# Altium schematic symbol library sajat.SchLib: 26 symbols
Pins are listed as number, name and electrical type; pins without a type are passive.

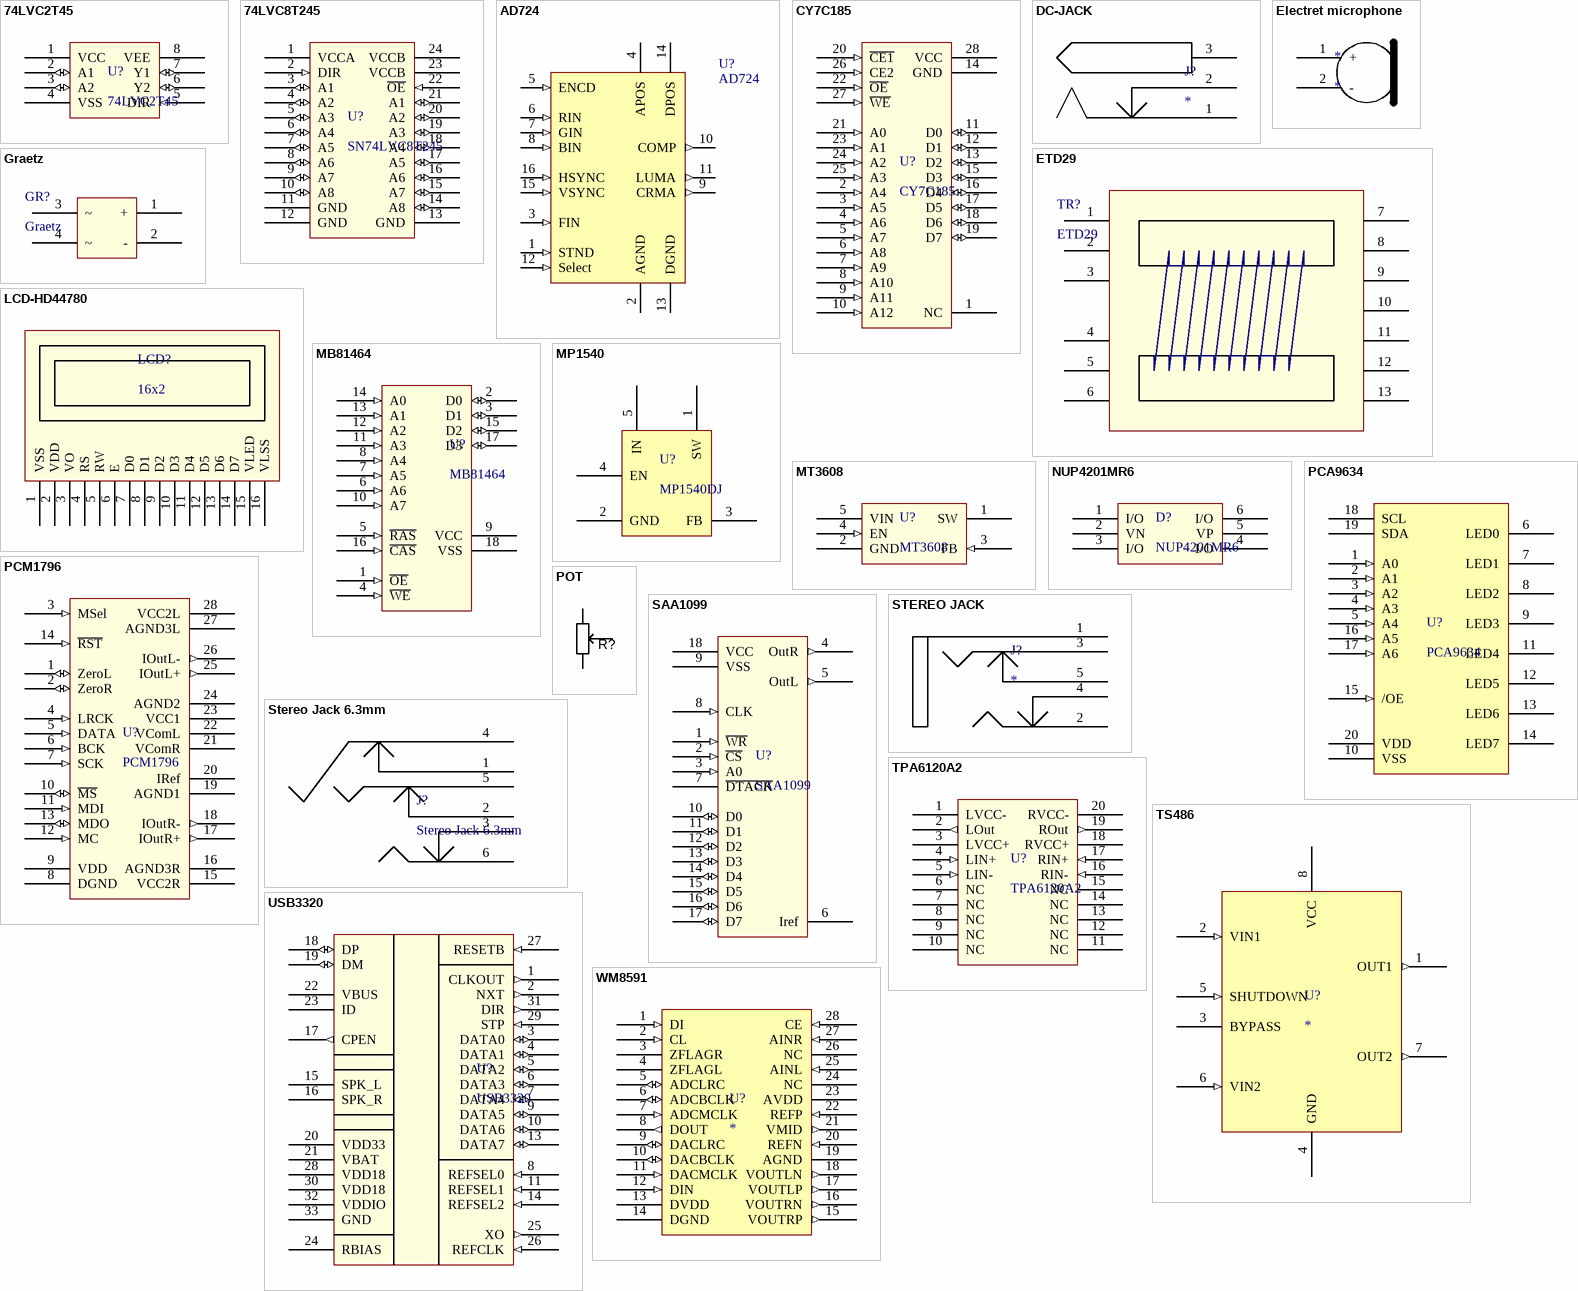
[diagram p0: symbols 74LVC2T45 to WM8591]

## 74LVC2T45
designator U?
2-line logic level shifter
footprint VSSOP8 (SOT765-1)
pins: 1 VCC (power), 2 A1 (io), 3 A2 (io), 4 VSS (power), 5 DIR (in), 6 Y2 (io), 7 Y1 (io), 8 VEE (power)

## 74LVC8T245
designator U?, comment SN74LVC8T245
Logic level shifter
footprint 24X (Shrink Small Outline; 24 Leads; Body Width 4.4 mm; Pitch 0.65 mm)
pins: 1 VCCA (power), 2 DIR (in), 3 A1 (io), 4 A2 (io), 5 A3 (io), 6 A4 (io), 7 A5 (io), 8 A6 (io), 9 A7 (io), 10 A8 (io), 11 GND (power), 12 GND (power), 13 GND (power), 14 A8 (io), 15 A7 (io), 16 A6 (io), 17 A5 (io), 18 A4 (io), 19 A3 (io), 20 A2 (io), 21 A1 (io), 22 ~{OE} (in), 23 VCCB (power), 24 VCCB (power)

## AD724
designator U?
Low Cost RGB to NTSC/PAL Encoder; Published: 6-Jun-2005; LatestRevisionDate: 13-Apr-2006; LatestRevisionNote: IPC-7351 Footprint Added.; DatasheetVersion: Rev. 0, Oct-1997; PackageVersion: 2005; PackageReference: RW-16; Publisher: Altium Limited; PackageDescription: 16-Pin Wide Body Small Outline Integrated Circuit 1.27 mm Pitch; Code_JEDEC: MS-013-AA; Code_IPC: SOIC127P1030-16; ComponentLink1Description: Manufacturer Link; ComponentLink1URL: Device Home PageŽhttp://www.analog.com/en/prod/0%2C2877%2CAD725%2C00.html; ComponentLink2Description: Datasheet; ComponentLink2URL: http://www.analog.com/UploadedFiles/Data_Sheets/774020909AD725_0.pdf
footprint RW-16_N (SOIC, 16-Leads, Body 10.3x7.5mm, Pitch 1.27mm, IPC Medium Density)
footprint RW-16_L (SOIC, 16-Leads, Body 10.3x7.5mm, Pitch 1.27mm, IPC High Density)
footprint RW-16_M (SOIC, 16-Leads, Body 10.3x7.5mm, Pitch 1.27mm, IPC Low Density)
3D model RW-16 (16-Pin Wide Body Small Outline Integrated Circuit 1.27 mm Pitch)
pins: 1 STND (in) "Encoding Standard Pin (NTSC - PAL)", 2 AGND (power) "Analog Ground Connection", 3 FIN (in) "Clock Input", 4 APOS (power) "Analog Positive Supply", 5 ENCD (in) "Enable encoding", 6 RIN (in) "Red Component Video Input", 7 GIN (in) "Green Component Video Input", 8 BIN (in) "Blue Component Video Input", 9 CRMA (out) "Chrominance Output", 10 COMP (out) "Composite Video Output", 11 LUMA (out) "Luminance plus CSYNC Output", 12 Select (in) "Select clock frequency", 13 DGND (power) "Digital Ground Connection", 14 DPOS (power) "Digital Positive Supply", 15 VSYNC (in) "Vertical Sync Signal", 16 HSYNC (in) "Horizontal Sync Signal"

## CY7C185
designator U?
8k × 8bit SRAM
footprint SOIC300-28_L (28-Pin Small Outline Integrated Circuit 1.27 mm Pitch, IPC High Density)
footprint SOIC300-28_M (28-Pin Small Outline Integrated Circuit 1.27 mm Pitch, IPC Low Density)
footprint SOIC300-28_N (28-Pin Small Outline Integrated Circuit 1.27 mm Pitch, IPC Medium Density)
pins: 1 NC, 2 A4 (in), 3 A5 (in), 4 A6 (in), 5 A7 (in), 6 A8 (in), 7 A9 (in), 8 A10 (in), 9 A11 (in), 10 A12 (in), 11 D0 (io), 12 D1 (io), 13 D2 (io), 14 GND (power), 15 D3 (io), 16 D4 (io), 17 D5 (io), 18 D6 (io), 19 D7 (io), 20 ~{CE1} (in), 21 A0 (in), 22 ~{OE} (in), 23 A1 (in), 24 A2 (in), 25 A3 (in), 26 CE2 (in), 27 ~{WE} (in), 28 VCC (power)

## DC-JACK
designator J?
Tápcsatlakozó
footprint JACK (Jack tápcsatlakozó)
pins: 1, 2, 3

## Electret microphone
designator *
Elektret mikrofon kapszula
footprint MIC 10 mm (10 mm átmérőjű elektret mikrofon betét)
pins: 1 +, 2 -

## ETD29
designator TR?
ETD29 magos transzformátor
footprint ETD29
pins: 1, 2, 3, 4, 5, 6, 7, 8, 9, 10, 11, 12, 13

## Graetz
designator GR?
Graetz híd
footprint DIP-GRAETZ (Graetz híd)
pins: 1 +, 2 -, 3 ~, 4 ~

## LCD-HD44780
designator LCD?, comment 16x2
HD44780 alapú LCD modul
footprint LCD_16x2 (16x2 karakteres LCD)
pins: 1 VSS, 2 VDD, 3 VO, 4 RS, 5 RW, 6 E, 7 D0, 8 D1, 9 D2, 10 D3, 11 D4, 12 D5, 13 D6, 14 D7, 15 VLED, 16 VLSS

## MB81464
designator U?
1024K x 4 bit DRAM
footprint PLCC/R-18L (PLCC; 18 Leads; Body 7.4 x 12.4 mm; Pitch 1.27 mm)
pins: 1 ~{OE} (in), 2 D0 (io), 3 D1 (io), 4 ~{WE} (in), 5 ~{RAS} (in), 6 A6 (in), 7 A5 (in), 8 A4 (in), 9 VCC (power), 10 A7 (in), 11 A3 (in), 12 A2 (in), 13 A1 (in), 14 A0 (in), 15 D2 (io), 16 ~{CAS} (in), 17 D3 (io), 18 VSS (power)

## MP1540
designator U?, comment MP1540DJ
Step-up converter
footprint S5 (SOT-23/SC-74A; 5 Leads; Body 3.1 x 3 mm, inc. leads (LxW max))
pins: 1 SW, 2 GND, 3 FB, 4 EN, 5 IN

## MT3608
designator U?
Boost converter
footprint SOT23-6
pins: 1 SW (oc), 2 GND (power), 3 FB (in), 4 EN (in), 5 VIN (power)

## NUP4201MR6
designator D?
TVS Array
footprint 318G-02 (SOT-457/SC-74; 6 Leads; Body 3.1 x 3 mm, inc. leads (LxW max))
pins: 1 I/O, 2 VN, 3 I/O, 4 I/O, 5 VP, 6 I/O

## PCA9634
designator U?
NXP I2C buszos LED meghajtó
footprint TSSOP65P640X120-20N (TSSOP, 20-Leads, Body 6.6x4.5mm (max), Pitch 0.65mm, IPC Medium Density)
pins: 1 A0 (in), 2 A1 (in), 3 A2 (in), 4 A3 (in), 5 A4 (in), 6 LED0, 7 LED1, 8 LED2, 9 LED3, 10 VSS (power), 11 LED4, 12 LED5, 13 LED6, 14 LED7, 15 /OE (in), 16 A5 (in), 17 A6 (in), 18 SCL (oc), 19 SDA (oc), 20 VDD (power)

## PCM1796
designator U?
PCM1796 high fidelity audio DAC
footprint DBT28 (Shrink Small Outline; 28 Leads; Body Width 4.4 mm; Pitch 0.5 mm)
pins: 1 ZeroL (io), 2 ZeroR (io), 3 MSel (in), 4 LRCK (in), 5 DATA (in), 6 BCK (in), 7 SCK (in), 8 DGND (power), 9 VDD (power), 10 ~{MS} (io), 11 MDI (in), 12 MC (in), 13 MDO (io), 14 ~{RST} (in), 15 VCC2R (power), 16 AGND3R (power), 17 IOutR+ (out), 18 IOutR- (out), 19 AGND1 (power), 20 IRef, 21 VComR, 22 VComL, 23 VCC1 (power), 24 AGND2 (power), 25 IOutL+ (out), 26 IOutL- (out), 27 AGND3L (power), 28 VCC2L (power)

## POT
designator R?, comment 25 turns  (value not drawn)
Trimmer THD; Tolerance: ±10%; Ratings: 1/2W; ±100ppm/°C; SCDType: spec; Material: Cermet; Package / Case: 10.9mm L x 5.0mm W x 10.0mm H
footprint PT-105 (Furatszerelt, fektetett trimmer potenciométer)
pins: 1, 2, 3

## SAA1099
designator U?
Philips SAA1099 SSG
footprint PDIP300-18 (DIP, Plastic; 18 Leads; Row Spacing 7.62 mm; Pitch 2.54 mm)
pins: 1 ~{WR} (in), 2 ~{CS} (in), 3 A0 (in), 4 OutR (out), 5 OutL (out), 6 Iref, 7 ~{DTACK} (oc), 8 CLK (in), 9 VSS (power), 10 D0 (io), 11 D1 (io), 12 D2 (io), 13 D3 (io), 14 D4 (io), 15 D5 (io), 16 D6 (io), 17 D7 (io), 18 VCC (power)

## STEREO JACK
designator J?
Sztereo audio csatlakozó 3,5 mm
footprint STEREO JACK 3.5 mm
pins: 1, 2, 3, 4, 5

## Stereo Jack 6.3mm
designator J?
Amphenol ACJS-MHDR
footprint ACJS-MHDR (Amphenol 6.3mm audio jack)
pins: 1, 2, 3, 4, 5, 6

## TPA6120A2
designator U?
High fidelity audio amplifier
footprint DW020_M (20-Pin Plastic Small Outline Integrated Circuit 1.27 mm Pitch, IPC Low Density)
pins: 1 LVCC- (power), 2 LOut (out), 3 LVCC+ (power), 4 LIN+ (in), 5 LIN- (in), 6 NC, 7 NC, 8 NC, 9 NC, 10 NC, 11 NC, 12 NC, 13 NC, 14 NC, 15 NC, 16 RIN- (in), 17 RIN+ (in), 18 RVCC+ (power), 19 ROut (out), 20 RVCC- (power)

## TS486
designator U?
0.1 W audio amplifier
footprint SOIC150-8_N (8-Pin Plastic Narrow Body Small Outline Integrated Circuit 1.27 mm Pitch, IPC Medium Density)
pins: 1 OUT1 (out), 2 VIN1 (in), 3 BYPASS, 4 GND (power), 5 SHUTDOWN (in), 6 VIN2 (in), 7 OUT2 (out), 8 VCC (power)

## USB3320
designator U?
SMSC USB ULPI transciever
footprint QFN50P500X500X80-33N (QFN, 32-Leads with exposed die pad, Body 5.1x5.1mm (max), Pitch 0.50mm, IPC Medium Density)
pins: 1 CLKOUT (out), 2 NXT (out), 3 DATA0 (io), 4 DATA1 (io), 5 DATA2 (io), 6 DATA3 (io), 7 DATA4 (io), 8 REFSEL0 (in), 9 DATA5 (io), 10 DATA6 (io), 11 REFSEL1 (in), 13 DATA7 (io), 14 REFSEL2 (in), 15 SPK_L, 16 SPK_R, 17 CPEN (out), 18 DP (io), 19 DM (io), 20 VDD33 (power), 21 VBAT (power), 22 VBUS, 23 ID, 24 RBIAS, 25 XO (out), 26 REFCLK (in), 27 RESETB (in), 28 VDD18 (power), 29 STP (in), 30 VDD18 (power), 31 DIR (out), 32 VDDIO (power), 33 GND (power)

## WM8591
designator U?
WM8591 AUDIO CODEC
footprint SSOP-28 (SSOP, Plastic; 28 Leads; Body Width 5.2 mm; Pitch 0.65 mm)
pins: 1 DI (in), 2 CL (in), 3 ZFLAGR (oc), 4 ZFLAGL (oc), 5 ADCLRC (io), 6 ADCBCLK (io), 7 ADCMCLK (in), 8 DOUT (out), 9 DACLRC (io), 10 DACBCLK (io), 11 DACMCLK (in), 12 DIN (in), 13 DVDD (power), 14 DGND (power), 15 VOUTRP (out), 16 VOUTRN (out), 17 VOUTLP (out), 18 VOUTLN (out), 19 AGND (power), 20 REFN (in), 21 VMID (out), 22 REFP (in), 23 AVDD (power), 24 NC, 25 AINL (in), 26 NC, 27 AINR (in), 28 CE (in)

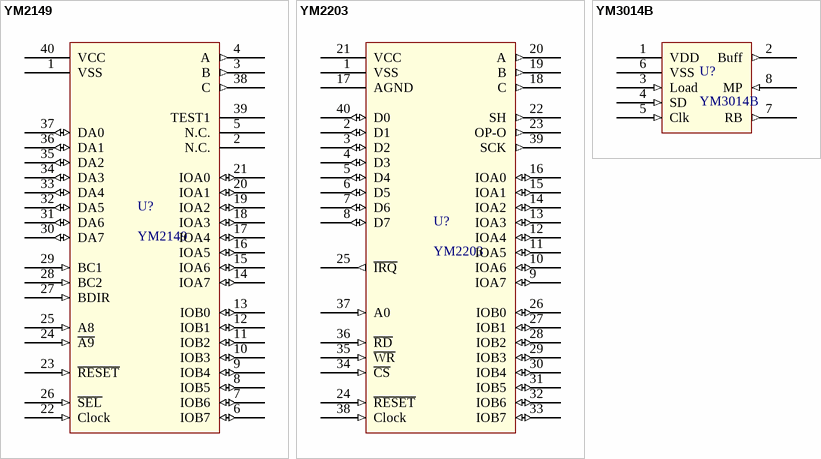
[diagram p1: symbols YM2149 to YM3014B]

## YM2149
designator U?
Yamaha YM2149 Software-controlled Sound Generator
footprint PDIP600-40 (DIP, Plastic; 40 Leads; Row Spacing 15.24 mm; Pitch 2.54 mm)
pins: 1 VSS (power), 2 N.C., 3 B (out), 4 A (out), 5 N.C., 6 IOB7 (io), 7 IOB6 (io), 8 IOB5 (io), 9 IOB4 (io), 10 IOB3 (io), 11 IOB2 (io), 12 IOB1 (io), 13 IOB0 (io), 14 IOA7 (io), 15 IOA6 (io), 16 IOA5 (io), 17 IOA4 (io), 18 IOA3 (io), 19 IOA2 (io), 20 IOA1 (io), 21 IOA0 (io), 22 Clock (in), 23 ~{RESET} (in), 24 ~{A9} (in), 25 A8 (in), 26 ~{SEL} (in), 27 BDIR (in), 28 BC2 (in), 29 BC1 (in), 30 DA7 (io), 31 DA6 (io), 32 DA5 (io), 33 DA4 (io), 34 DA3 (io), 35 DA2 (io), 36 DA1 (io), 37 DA0 (io), 38 C (out), 39 TEST1, 40 VCC (power)

## YM2203
designator U?
Yamaha YM2203 FM-capable SSG
footprint PDIP600-40 (DIP, Plastic; 40 Leads; Row Spacing 15.24 mm; Pitch 2.54 mm)
pins: 1 VSS (power), 2 D1 (io), 3 D2 (io), 4 D3 (io), 5 D4 (io), 6 D5 (io), 7 D6 (io), 8 D7 (io), 9 IOA7 (io), 10 IOA6 (io), 11 IOA5 (io), 12 IOA4 (io), 13 IOA3 (io), 14 IOA2 (io), 15 IOA1 (io), 16 IOA0 (io), 17 AGND (power), 18 C (out), 19 B (out), 20 A (out), 21 VCC (power), 22 SH (out), 23 OP-O (out), 24 ~{RESET} (in), 25 ~{IRQ} (out), 26 IOB0 (io), 27 IOB1 (io), 28 IOB2 (io), 29 IOB3 (io), 30 IOB4 (io), 31 IOB5 (io), 32 IOB6 (io), 33 IOB7 (io), 34 ~{CS} (in), 35 ~{WR} (in), 36 ~{RD} (in), 37 A0 (in), 38 Clock (in), 39 SCK (out), 40 D0 (io)

## YM3014B
designator U?
Yamaha YM3014B Serial Input Floating D/A Converter
pins: 1 VDD (power), 2 Buff (out), 3 Load (in), 4 SD (in), 5 Clk (in), 6 VSS (power), 7 RB (out), 8 MP (in)